# EAGLE library part MB85RS64V (library radiationbean)
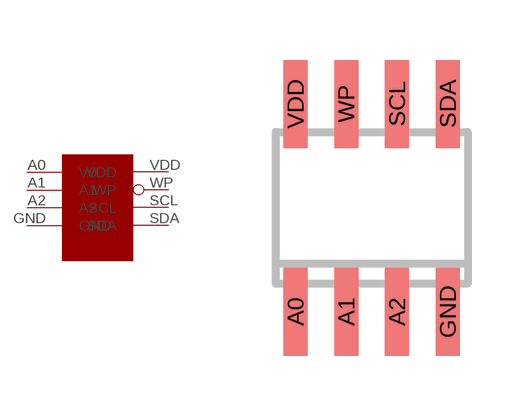
[diagram p0: symbol with the pads of SO08; footprint SO08]

Designator prefix -

## MB85RS64V  [SO08]
A0  V0  in
A1  A1  in
A2  A2  in
GND  GND  pwr
SCL  SCL  out
SDA  SDA
VDD  VDD  pwr
WP  WP  in

## Footprint SO08 (pad centres in mm)
Small Outline Package 8 NS Package M08A
smd 0.6 x 2.2: A0 -1.905,-2.6; A1 -0.635,-2.6; A2 0.635,-2.6; GND 1.905,-2.6; SCL 0.635,2.6; SDA 1.905,2.6; VDD -1.905,2.6; WP -0.635,2.6